# Altium integrated library LARS_409_CLOCKS.Library.IntLib: 6 symbols
Pins are listed as number, name and electrical type; pins without a type are passive.

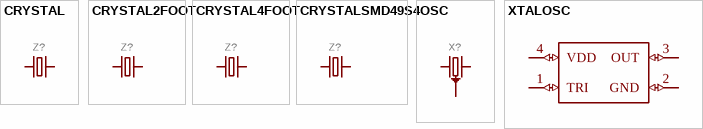
[diagram p0: symbols CRYSTAL to XTALOSC]

## CRYSTAL
designator Z?
GateName_1: G$1; SymbolName_1: CRYSTAL; LibraryName: LARS_409_CLOCKS; DeviceSetName: CRYSTAL; Package: CRYSTAL-DIP-HC49/S
footprint CRYSTAL-DIP-HC49/S
pins: 1, 2

## CRYSTAL2FOOT
designator Z?
GateName_1: G$1; SymbolName_1: CRYSTAL; DeviceName: 2FOOT; LibraryName: LARS_409_CLOCKS; DeviceSetName: CRYSTAL; Package: CRYSTAL-SMD-3.2X1.5X90MM
footprint CRYSTAL-SMD-3.2X1.5X90MM
pins: P$1 1, P$2 2

## CRYSTAL4FOOT
designator Z?
GateName_1: G$1; SymbolName_1: CRYSTAL; DeviceName: 4FOOT; LibraryName: LARS_409_CLOCKS; DeviceSetName: CRYSTAL; Package: CRYSTAL-SMD-3.2X2.5MM
footprint CRYSTAL-SMD-3.2X2.5MM
pins: 1, 3 2

## CRYSTALSMD49S4
designator Z?
GateName_1: G$1; SymbolName_1: CRYSTAL; DeviceName: SMD49S4; LibraryName: LARS_409_CLOCKS; DeviceSetName: CRYSTAL; Package: CRYSTAL-HC49SMD
footprint CRYSTAL-HC49SMD
pins: 1, 2

## OSC
designator X?
GateName_1: G$1; SymbolName_1: CRYSTALGND; DeviceSetName: OSC; LibraryName: LARS_409_CLOCKS; Package: 2016
footprint 2016
pins: P$1,3 P$1 (io), P$2 2, P$4 1

## XTALOSC
designator Z?
GateName_1: G$1; SymbolName_1: XTALOSC; LibraryName: LARS_409_CLOCKS; DeviceSetName: XTALOSC; Package: CRYSTAL-SMD-3.2X5MM
footprint CRYSTAL-SMD-3.2X5MM
pins: 1 TRI (io), 2 GND (io), 3 OUT (io), 4 VDD (io)